# Altium schematic symbol library SBH11-PBPC-D10-ST-BK.SchLib: 1 symbol
Pins are listed as number, name and electrical type; pins without a type are passive.

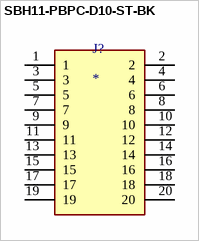
[diagram p0: symbol SBH11-PBPC-D10-ST-BK]

## SBH11-PBPC-D10-ST-BK
designator J?
Connector Header Through Hole 20 position 0.100 (2.54mm); MP: SBH11-PBPC-D10-ST-BK; MF: Sullins Connector; SnapEDA_Link: https://www.snapeda.com/parts/SBH11-PBPC-D10-ST-BK/Sullins+Connector+Solutions/view-part/?ref=snap; Availability: In Stock; Package: None; Price: None; Purchase-URL: https://pricing.snapeda.com/search/part/SBH11-PBPC-D10-ST-BK/?ref=eda; Value: *; Check_prices: https://www.snapeda.com/parts/SBH11-PBPC-D10-ST-BK/Sullins+Connector+Solutions/view-part/?ref=eda
footprint SULLINS_SBH11-PBPC-D10-ST-BK
pins: 1, 2, 3, 4, 5, 6, 7, 8, 9, 10, 11, 12, 13, 14, 15, 16, 17, 18, 19, 20